# EAGLE library part SSW-125-02-S-S (library con-samtec)
THROUGH-HOLE .025" SQ POST SOCKET Source: Samtec SSW.pdf
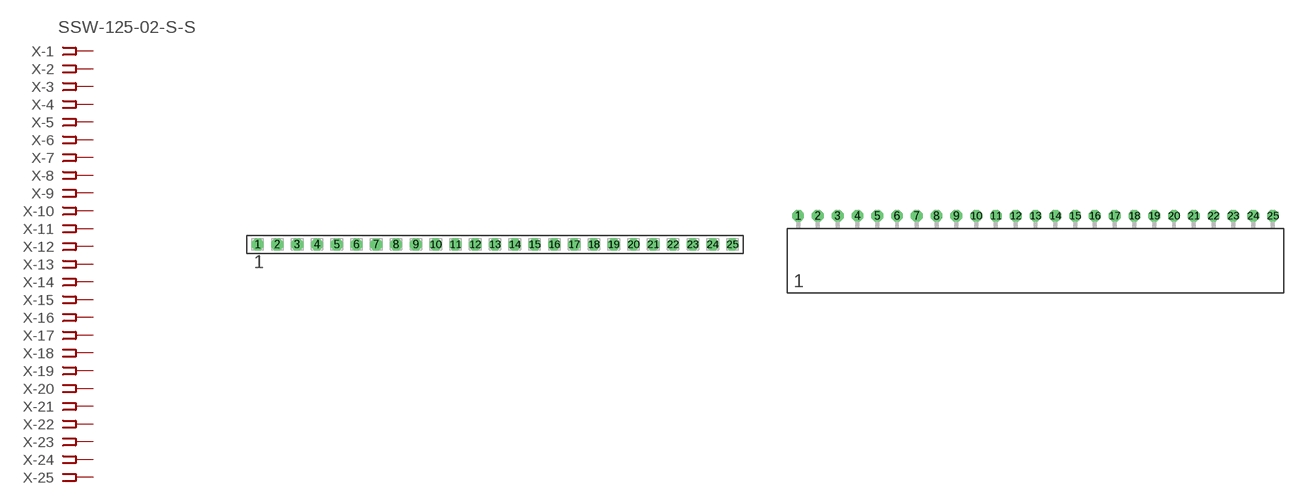
[diagram p79: symbol with the pads of SSW-125-02-S-S; footprints SSW-125-02-S-S, SSW-125-02-S-S-RA]

Designator prefix X; gates -1=FPINV -2=FPIN -3=FPIN -4=FPIN -5=FPIN -6=FPIN -7=FPIN -8=FPIN -9=FPIN -10=FPIN -11=FPIN -12=FPIN -13=FPIN -14=FPIN -15=FPIN -16=FPIN -17=FPIN -18=FPIN -19=FPIN -20=FPIN -21=FPIN -22=FPIN -23=FPIN -24=FPIN -25=FPIN

## SSW-125-02-S-S (MPN: SSW-125-02-S-S; OC_FARNELL: unknown; OC_NEWARK: 11P9725)  [SSW-125-02-S-S]
1  -1:1  pas
2  -2:1  pas
3  -3:1  pas
4  -4:1  pas
5  -5:1  pas
6  -6:1  pas
7  -7:1  pas
8  -8:1  pas
9  -9:1  pas
10  -10:1  pas
11  -11:1  pas
12  -12:1  pas
13  -13:1  pas
14  -14:1  pas
15  -15:1  pas
16  -16:1  pas
17  -17:1  pas
18  -18:1  pas
19  -19:1  pas
20  -20:1  pas
21  -21:1  pas
22  -22:1  pas
23  -23:1  pas
24  -24:1  pas
25  -25:1  pas

## SSW-125-02-S-S-RA (MPN: SSW-125-02-S-S-RA; OC_FARNELL: unknown; OC_NEWARK: 11P9726)  [SSW-125-02-S-S-RA]
Pads as for SSW-125-02-S-S

## Footprint SSW-125-02-S-S (pad centres in mm)
THROUGH-HOLE .025" SQ POST SOCKET Source: Samtec SSW.pdf
drill 1 pad 1.5 octagon: 1 -30.48,0; 2 -27.94,0; 3 -25.4,0; 4 -22.86,0; 5 -20.32,0; 6 -17.78,0; 7 -15.24,0; 8 -12.7,0; 9 -10.16,0; 10 -7.62,0; 11 -5.08,0; 12 -2.54,0; 13 0,0; 14 2.54,0; 15 5.08,0; 16 7.62,0; 17 10.16,0; 18 12.7,0; 19 15.24,0; 20 17.78,0; 21 20.32,0; 22 22.86,0; 23 25.4,0; 24 27.94,0; 25 30.48,0

## Footprint SSW-125-02-S-S-RA (pad centres in mm)
THROUGH-HOLE .025" SQ POST SOCKET Source: Samtec SSW.pdf
drill 1 pad 1.5 octagon: 1 -30.48,1.524; 2 -27.94,1.524; 3 -25.4,1.524; 4 -22.86,1.524; 5 -20.32,1.524; 6 -17.78,1.524; 7 -15.24,1.524; 8 -12.7,1.524; 9 -10.16,1.524; 10 -7.62,1.524; 11 -5.08,1.524; 12 -2.54,1.524; 13 0,1.524; 14 2.54,1.524; 15 5.08,1.524; 16 7.62,1.524; 17 10.16,1.524; 18 12.7,1.524; 19 15.24,1.524; 20 17.78,1.524; 21 20.32,1.524; 22 22.86,1.524; 23 25.4,1.524; 24 27.94,1.524; 25 30.48,1.524